# Altium footprint library bg_pcb.PcbLib: 61 footprints (part 1 of 4)
Each footprint in its own frame and in the unit in brackets; x right, y up, seen from the top. Pads: shape width x height; smd on the part's side, far side on the other; paste and mask are expansions set on the pad; w line width, h text height; cw(c..) or ccw(c..) is an arc to the next point about the centre after c.
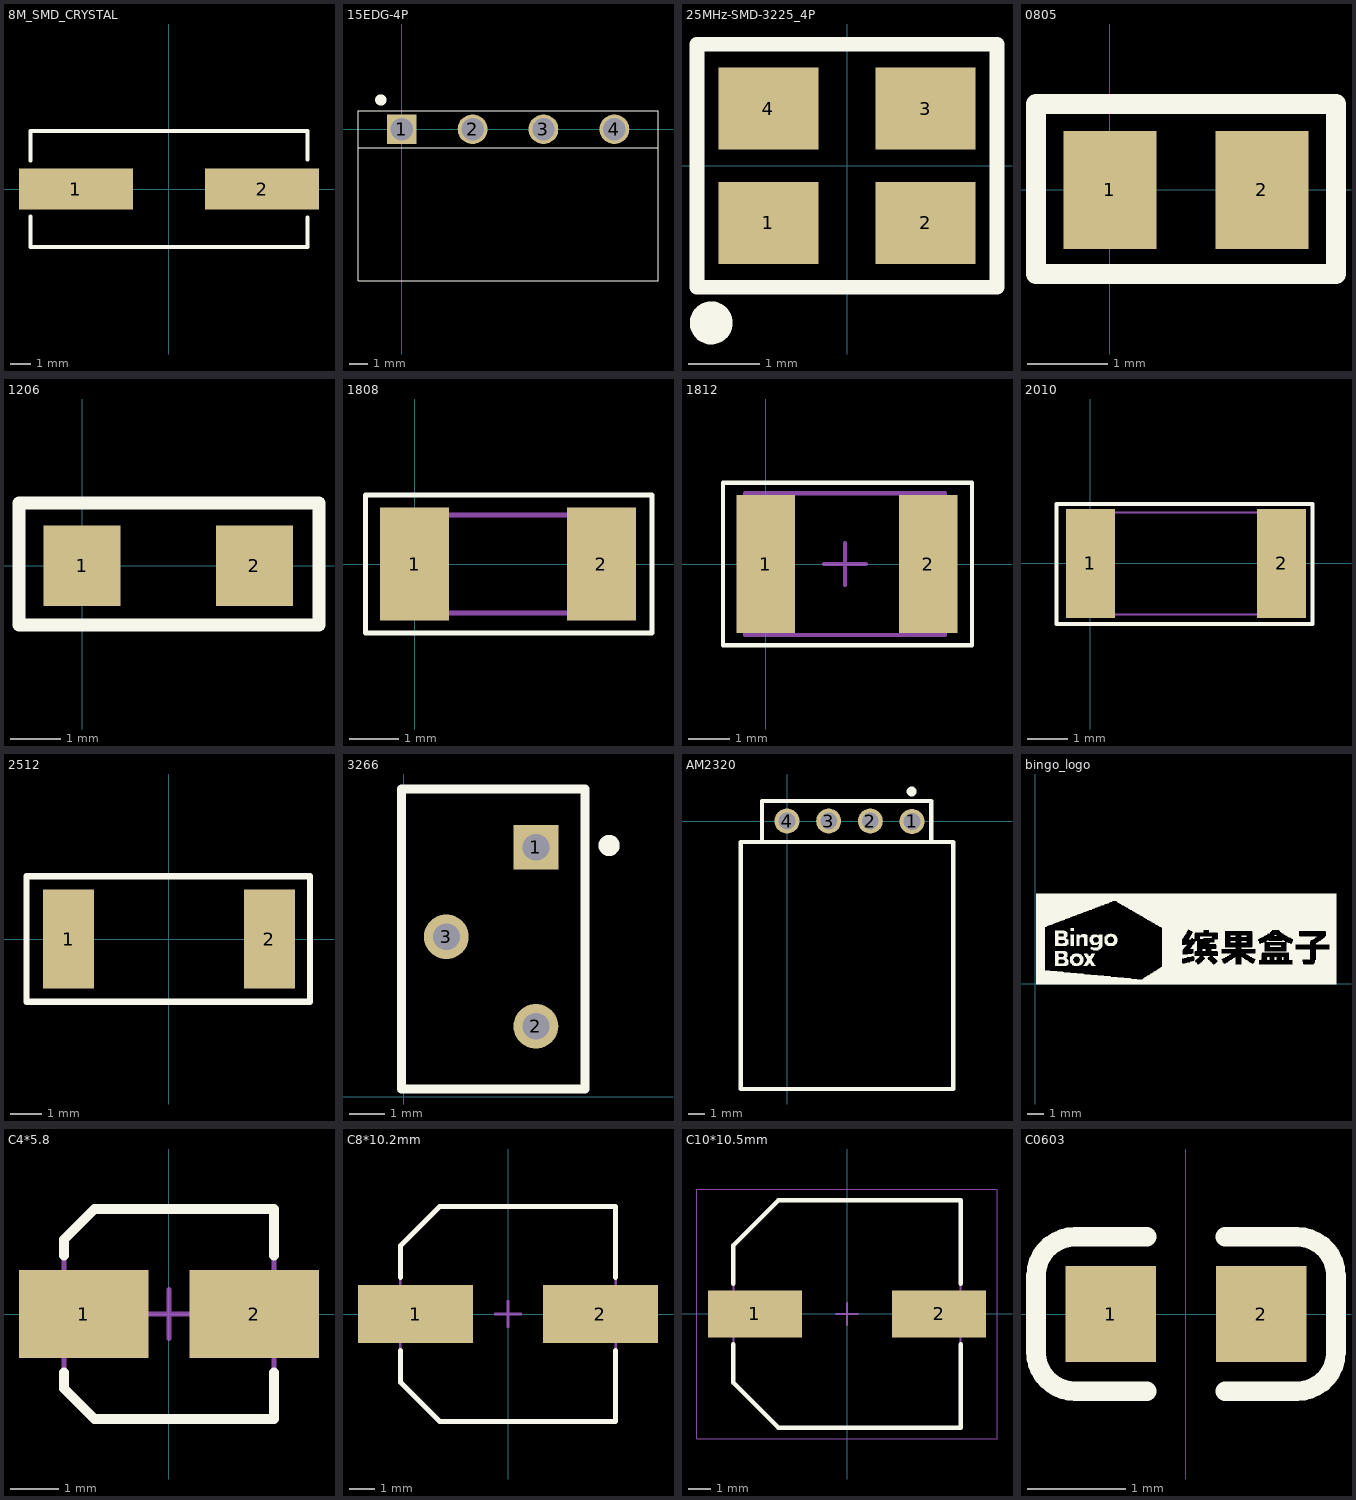
[diagram p0: the footprints below, top view; thin cyan lines are the x and y axes]

## 8M_SMD_CRYSTAL [mm]
pads (2):
  rect 5.5x2 smd: 1(-4.5,0) 2(4.5,0)
Top Overlay:
  lines w0.2: -6.7,-1.325 -6.7,-1.5 -6.7,-2.8 6.7,-2.8 6.7,-1.375 ; -6.7,1.375 -6.7,2.8 6.7,2.8 6.7,1.425

## 15EDG-4P [mm]
pads (4):
  rect 1.6x1.6 hole 1.2: 1(0,0)
  round 1.6 hole 1.2: 2(3.81,0) 3(7.62,0) 4(11.43,0)
Top Overlay:
  circle w0.3: c-1.125,1.575 r0.15
  lines w0.051: -2.35,-1 13.775,-1 ; -2.35,-8.15 13.775,-8.15 13.775,1 -0.1,1 -2.35,1 -2.35,-8.15

## 25MHz-SMD-3225_4P [mm]
pads (4):
  rect 1.4x1.15 smd: 1(-1.1,-0.8) 2(1.1,-0.8) 3(1.1,0.8) 4(-1.1,0.8)
Top Overlay:
  circle w0.3: c-1.9,-2.2 r0.15
  lines w0.203: -2.1,-1.7 2.1,-1.7 2.1,1.7 -2.1,1.7 -2.1,-1.7
3D body "User Library-3225-1.STEP": height 0.61, standoff 0, extent -1.6,-1.25 1.6,1.25

## 0805 [mm] "Chip Capacitor, Body 2.0x1.3mm, IPC High Density"
height 1.4
pads (2):
  rect 1.16x1.47 smd: 1(0,0) 2(1.9,0)
Top Overlay:
  lines w0.254: -0.925,-1.05 -0.925,1.075 -0.275,1.075 2.825,1.075 2.825,-1.05 -0.925,-1.05

## 1206 [mm]
height 1
pads (2):
  rect 1.52x1.6 smd: 1(0,0) 2(3.42,0)
Top Overlay:
  lines w0.254: -1.25,-1.175 -1.25,1.25 4.7,1.25 4.7,-1.175 -1.25,-1.175

## 1808 [mm]
pads (2):
  rect 1.4x2.3 smd: 1(0,0) 2(3.8,0)
Top Overlay:
  lines w0.1: -1,-1.4 4.825,-1.4 4.825,1.4 -1,1.4 -1,-1.4
Mechanical 13:
  lines w0.1: -0.35,-1 -0.35,1 4.15,1 4.15,-1 -0.35,-1

## 1812 [mm] "Chip Capacitor, Body 4.5x3.2mm, IPC High Density"
height 1.4
pads (2):
  rect 1.4x3.3 smd: 1(0,0) 2(3.9,0)
Top Overlay:
  lines w0.1: -1.025,-1.95 4.95,-1.95 4.95,1.95 -1.025,1.95 -1.025,-1.95
Mechanical 13:
  lines w0.1: -0.5,-1.7 -0.5,1.7 4.3,1.7 4.3,-1.7 -0.5,-1.7
Mechanical 15:
  lines w0.1: 1.4,0 2.4,0 ; 1.9,-0.5 1.9,0.5
3D body: height 1.4, standoff 0, extent -0.5,-1.7 4.3,1.7

## 2010 [mm]
pads (2):
  rect 1.2x2.67 smd: 1(0,0) 2(4.68,0)
Top Overlay:
  lines w0.1: -0.834,1.435 -0.834,-1.49 5.441,-1.49 5.441,1.46 -0.834,1.46
Mechanical 13:
  lines w0.05: -0.16,-1.25 4.84,-1.25 4.84,1.25 -0.16,1.25 -0.16,-1.25

## 2512 [mm]
pads (2):
  rect 1.65x3.2 smd: 1(-3.24,0) 2(3.24,0)
Top Overlay:
  lines w0.2: -4.6,-2.025 -4.6,1.285 -4.6,2.025 4.55,2.025 4.55,-2.025 -4.6,-2.025

## 3266 [mil]
pads (3):
  rect 50x50 hole 30: 1(147.56,278.58)
  round 50 hole 30: 2(147.56,78.58) 3(47.56,178.58)
Top Overlay:
  circle w11.81: c229.33,280.51 r5.91
  lines w10: -2.44,8.58 202.56,8.58 202.56,343.58 -2.44,343.58 -2.44,8.58

## AM2320 [mm]
pads (4):
  round 1.5 hole 1: 1(7.5,-0.025) 2(5,0) 3(2.5,0) 4(0,0)
Top Overlay:
  circle w0.3: c7.475,1.775 r0.15
  lines w0.254: -2.775,-1.25 -2.775,-16 -2.775,-16.075 9.975,-16.075 9.975,-1.25 -2.725,-1.25 ; -1.5,-1.2 -1.5,1.2 8.65,1.2 8.65,-1.2

## bingo_logo [mm]
Top Overlay:
  drawing of 1351 lines, arcs and shapes, not listed

## C4*5.8 [mm]
height 5.8
pads (2):
  rect 2.65x1.8 smd: 1(-1.75,0) 2(1.75,0)
Top Overlay:
  lines w0.2: -2.15,-1.2 -2.15,-1.525 -1.525,-2.15 2.15,-2.15 2.15,-1.2 ; -2.15,1.2 -2.15,1.525 -1.525,2.15 2.15,2.15 2.15,1.2
Mechanical 13:
  lines w0.1: -2.15,-1.525 -2.15,1.525 -1.525,2.15 2.15,2.15 2.15,-2.15 -1.525,-2.15 -2.15,-1.525
Mechanical 15:
  lines w0.1: -0.5,0 0.5,0 ; 0,-0.5 0,0.5
3D body: height 5.8, standoff 0, extent -0.5,-0.5 0.5,0.499
3D body: height 1.94, standoff 0, extent -2.15,-2.15 2.15,2.15

## C8*10.2mm [mm]
height 10.2
pads (2):
  rect 4.55x2.3 smd: 1(-3.65,0) 2(3.65,0)
Top Overlay:
  lines w0.2: -4.25,-1.45 -4.25,-2.7 -2.7,-4.25 4.25,-4.25 4.25,-1.45 ; -4.25,1.45 -4.25,2.7 -2.7,4.25 4.25,4.25 4.25,1.45
Mechanical 13:
  lines w0.1: -4.25,-2.7 -2.7,-4.25 4.25,-4.25 4.25,4.25 -2.7,4.25 -4.25,2.7 -4.25,-2.7
Mechanical 15:
  lines w0.1: -0.5,0 0.5,0 ; 0,-0.5 0,0.5
3D body: height 3.4, standoff 0, extent -4.25,-4.25 4.25,4.25
3D body: height 10.2, standoff 0, extent -1.55,-1.55 1.55,1.55

## C10*10.5mm [mm]
height 10.5
pads (2):
  rect 4.25x2.15 smd: 1(-4.175,0) 2(4.175,0)
Top Overlay:
  lines w0.2: -5.15,-1.375 -5.15,-3.113 -3.113,-5.15 5.15,-5.15 5.15,-1.375 ; -5.15,1.375 -5.15,3.112 -3.113,5.15 5.15,5.15 5.15,1.375
Mechanical 13:
  lines w0.1: -5.15,-3.113 -5.15,3.112 -3.113,5.15 5.15,5.15 5.15,-5.15 -3.113,-5.15 -5.15,-3.113
Mechanical 15:
  lines w0.05: -6.8,-5.65 6.8,-5.65 6.8,5.65 -6.8,5.65 -6.8,-5.65
  lines w0.1: -0.5,0 0.5,0 ; 0,-0.5 0,0.5
3D body: height 10.5, standoff 0, extent -2.3,-2.3 2.3,2.3
3D body: height 3.5, standoff 0, extent -5.15,-5.15 5.15,5.15

## C0603 [mm]
pads (2):
  rect 0.93x0.98 smd: 1(-0.77,0) 2(0.77,0)
Top Overlay:
  lines w0.2: -0.4,-0.79 -1.135,-0.79 cw(c-1.135,-0.39) -1.535,-0.39 -1.535,0.39 cw(c-1.135,0.39) -1.135,0.79 -0.4,0.79 ; 0.4,-0.79 1.135,-0.79 ccw(c1.135,-0.39) 1.535,-0.39 1.535,0.39 ccw(c1.135,0.39) 1.135,0.79 0.4,0.79
3D body "User Library-0603 SMD Capacitor.STEP": height 0.3, standoff 0, extent -0.8,-0.4 0.8,0.4